# EAGLE library part D__7SEGMENT_SCHWARZ (library ++Bedrahtet)
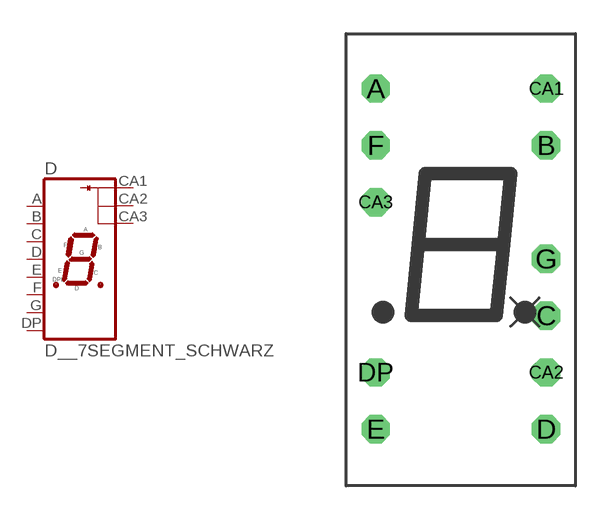
[diagram p24: symbol with the pads of 7-SEG-SCHWARZ; footprint 7-SEG-SCHWARZ]

Designator prefix D

## D__7SEGMENT_SCHWARZ  [7-SEG-SCHWARZ]
A  A  pas
B  B  pas
C  C  pas
CA1  CA1  pas
CA2  CA2  pas
CA3  CA3  pas
D  D  pas
DP  DPL  pas
E  E  pas
F  F  pas
G  G  pas

## Footprint 7-SEG-SCHWARZ (pad centres in mm)
drill 0.6 pad 1.27 octagon: A -4.921,6.032; B 2.699,3.493; C 2.699,-4.128; CA1 2.699,6.032; CA2 2.699,-6.668; CA3 -4.921,0.953; D 2.699,-9.207; DP -4.921,-6.668; E -4.921,-9.207; F -4.921,3.493; G 2.699,-1.587